# Altium schematic symbol library Inductors.SchLib: 10 symbols
Pins are listed as number, name and electrical type; pins without a type are passive.

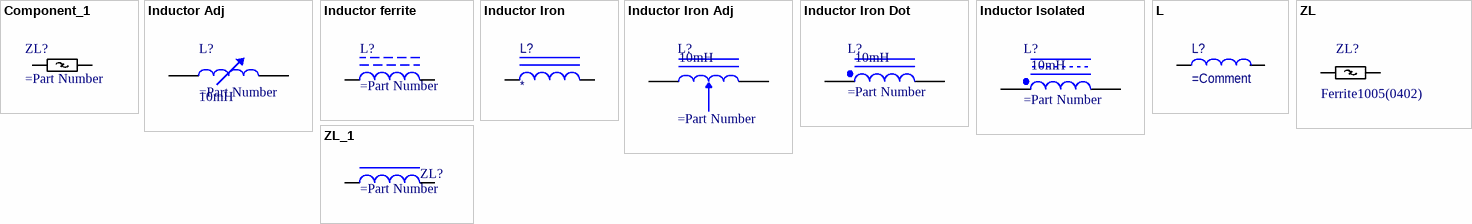
[diagram p0: symbols Component_1 to ZL_1]

## Component_1
designator ZL?
pins: 1, 2

## Inductor Adj
designator L?  value 10mH
Adjustable Inductor; Set Position: 0.5; Published: 24-Mar-1999; LatestRevisionDate: 17-Jul-2002; LatestRevisionNote: Re-released for DXP Platform.; PackageReference: AXIAL-0.8; Publisher: Altium Limited; PackageDescription: Axial Device, Thru-Hole; 2 Leads; 0.8 in Pin Spacing
pins: 1, 2

## Inductor ferrite
designator L?
Magnetic-Core Inductor; Published: 24-Mar-1999; LatestRevisionDate: 17-Jul-2002; LatestRevisionNote: Re-released for DXP Platform.; PackageReference: AXIAL-0.9; Publisher: Altium Limited; PackageDescription: Axial Device, Thru-Hole; 2 Leads; 0.9 in Pin Spacing
pins: 1, 2

## Inductor Iron
designator L?
Magnetic-Core Inductor
pins: 1, 2

## Inductor Iron Adj
designator L?  value 10mH
Adjustable Magnetic-Core Inductor; Set Position: 0.5; Published: 24-Mar-1999; LatestRevisionDate: 17-Jul-2002; LatestRevisionNote: Re-released for DXP Platform.; PackageReference: AXIAL-1.0; Publisher: Altium Limited; PackageDescription: Axial Device, Thru-Hole; 2 Leads; 1.0 in Pin Spacing
pins: 1, 2

## Inductor Iron Dot
designator L?  value 10mH
Magnetic-Core Inductor with Winding Polarity Marking; Published: 24-Mar-1999; LatestRevisionDate: 17-Jul-2002; LatestRevisionNote: Re-released for DXP Platform.; PackageReference: DIODE_SMC; Publisher: Altium Limited; PackageDescription: Diode; 2 Leads
pins: 1, 2

## Inductor Isolated
designator L?  value 10mH
Isolated Inductor; Published: 24-Mar-1999; LatestRevisionDate: 17-Jul-2002; LatestRevisionNote: Re-released for DXP Platform.; PackageVersion: 1988; PackageReference: 425; Publisher: Altium Limited; PackageDescription: SOD-123; 2 Leads; Body 2.7 x 1.6 mm, (LxW)
pins: 1, 2

## L
designator L?
pins: 1, 2

## ZL
designator ZL?, comment Ferrite1005(0402)
FERRITE BEAD 470 OHM 0402 1LN; Manufacturer Part Number: BLM15PX471SN1D; Part Number: Ferrite1005(0402); Price$: 0.14; Package: 0402; HelpURL: https://eu.mouser.com/ProductDetail/Murata-Electronics/BLM15PX471SN1D?qs=%2Fha2pyFadugFXr5biOyskwIVnWnam4MScgU55pluOIVbLGfRcJswjw%3D%3D; Mouser Part Number: BLM15PX471SN1D
footprint Ferrite1005(0402)
pins: 1, 2

## ZL_1
designator ZL?
pins: 1, 2